# Altium footprint library gfl.PcbLib: 31 footprints (part 2 of 2)
Each footprint in its own frame and in the unit in brackets; x right, y up, seen from the top. Pads: shape width x height; smd on the part's side, far side on the other; paste and mask are expansions set on the pad; w line width, h text height; cw(c..) or ccw(c..) is an arc to the next point about the centre after c.
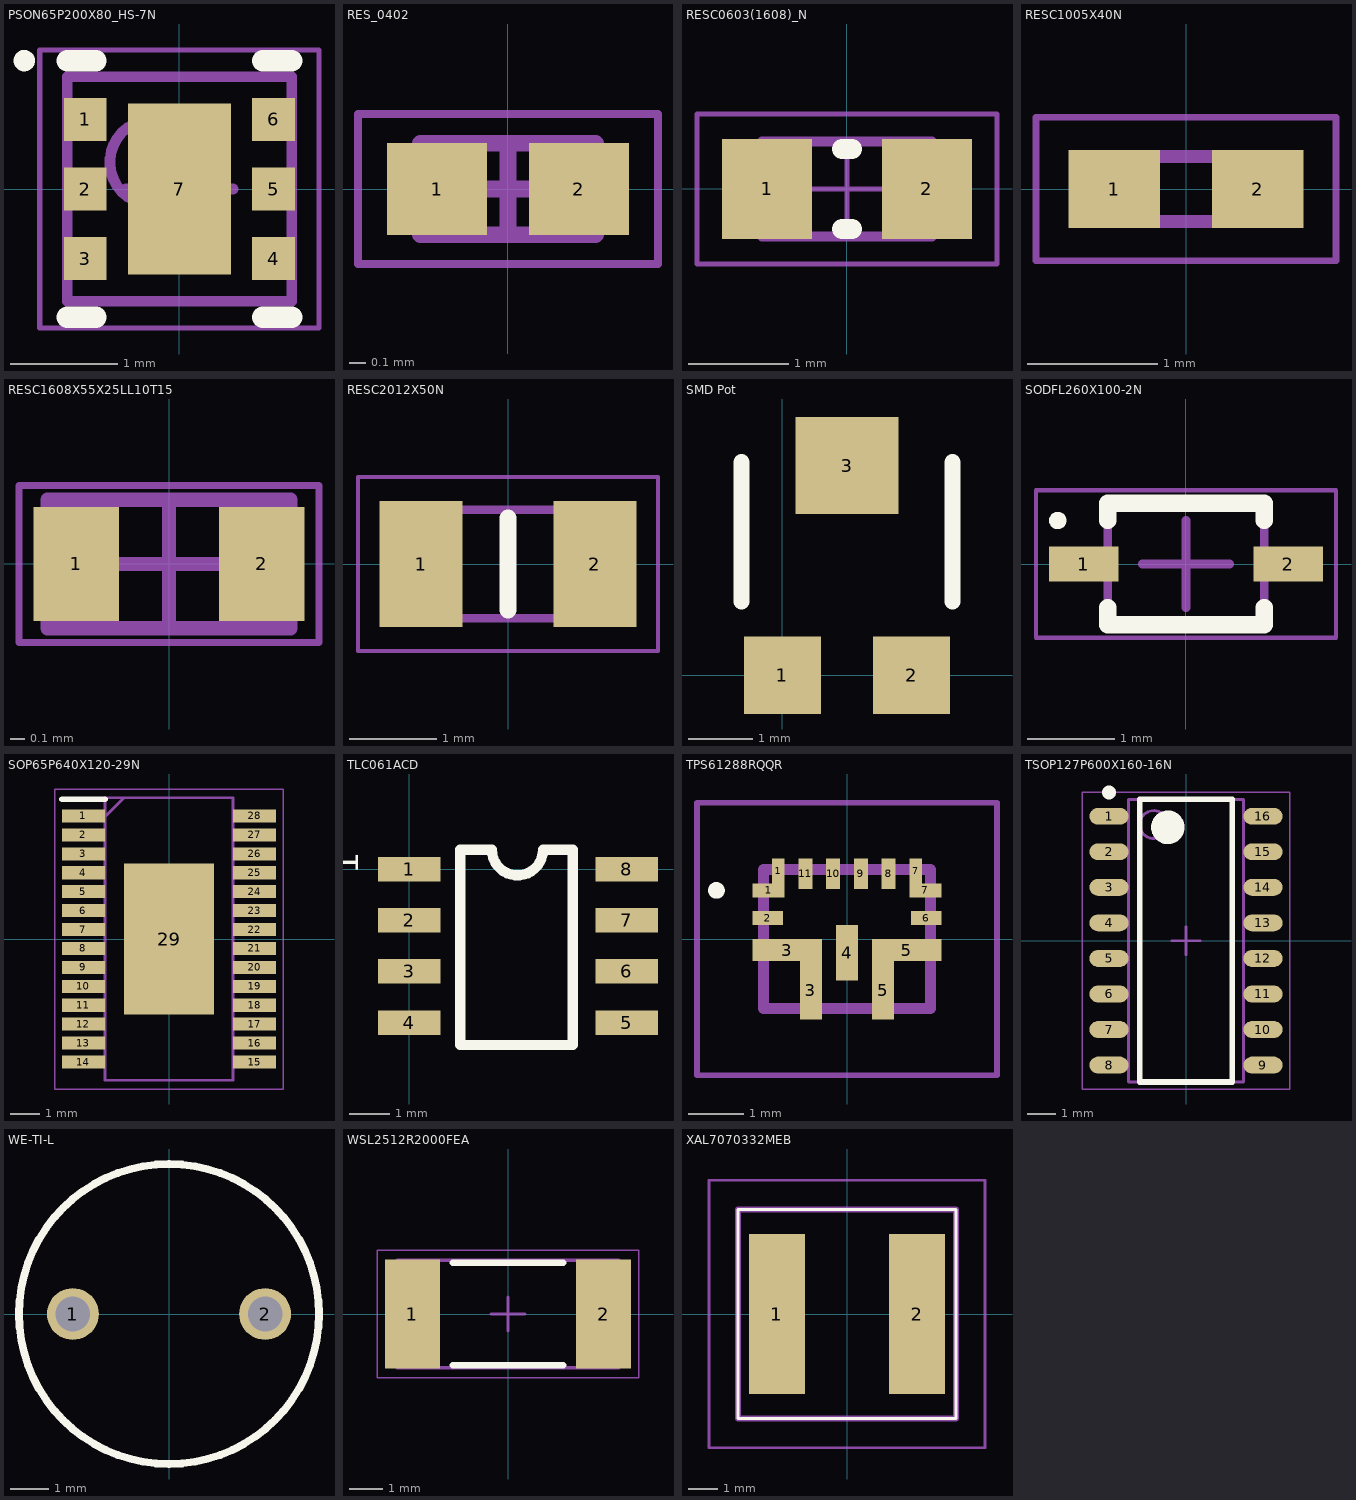
[diagram p1: the footprints below, top view; thin cyan lines are the x and y axes]

## PSON65P200X80_HS-7N [mm] "PSON, 6-Leads, Body 2.00x2.00mm, Pitch 0.65mm, Thermal Pad 1.60x0.96mm, IPC Medium Density"
height 0.8
pads (7):
  rect 0.4x0.4 smd: 1(-0.88,0.65) 2(-0.88,0) 3(-0.88,-0.65) 4(0.88,-0.65) 5(0.88,0) 6(0.88,0.65)
  rect 0.96x1.6 smd: 7(0,0)
Top Overlay:
  circle w0.1: c-1.45,1.2 r0.05
  lines w0.2: -1.05,-1.2 -0.78,-1.2 ; -1.05,1.2 -0.78,1.2 ; 0.78,-1.2 1.05,-1.2 ; 0.78,1.2 1.05,1.2
Top Courtyard:
  lines w0.05: -1.305,-1.3 1.305,-1.3 1.305,1.3 -1.305,1.3 -1.305,-1.3
  lines w0.1: -0.5,0 0.5,0 ; 0,-0.5 0,0.5
Mechanical 13:
  circle w0.1: c-0.25,0.25 r0.4
  lines w0.1: -1.05,-1.05 1.05,-1.05 1.05,1.05 -1.05,1.05 -1.05,-1.05
3D body: height 0.8, standoff 0.08, extent -1.05,-1.05 1.05,1.05

## RES_0402 [mm] "Chip Resistor, 2-Leads, Body 1.00x0.50mm, IPC Medium Density"
height 0.4
pads (2):
  rect 0.6x0.55 smd: 1(-0.425,0) 2(0.425,0)
Mechanical 13:
  lines w0.1: -0.525,-0.275 0.525,-0.275 0.525,0.275 -0.525,0.275 -0.525,-0.275
Mechanical 15:
  lines w0.05: -0.9,-0.45 0.9,-0.45 0.9,0.45 -0.9,0.45 -0.9,-0.45
  lines w0.1: -0.275,0 0.275,0 ; 0,-0.275 0,0.275
3D body "RES_0402.step": height 0.4, standoff 0, extent -0.525,-0.275 0.525,0.275

## RESC0603(1608)_N [mm] "Chip Resistor, Body 1.6x0.8mm, IPC Medium Density"
height 0.6
pads (2):
  rect 0.9x1 smd: 1(-0.8,0) 2(0.8,0)
Top Overlay:
  lines w0.2: -0.05,-0.4 0.05,-0.4 ; -0.05,0.4 0.05,0.4
Mechanical 13:
  lines w0.1: -0.85,-0.475 -0.85,0.475 0.85,0.475 0.85,-0.475 -0.85,-0.475
Mechanical 15:
  lines w0.05: -0.475,0 0.475,0 ; 0,-0.475 0,0.475 ; -1.5,-0.75 -1.5,0.75 1.5,0.75 1.5,-0.75 -1.5,-0.75
3D body: height 0.6, standoff 0, extent 0.581,-0.474 0.85,0.475
3D body: height 0.6, standoff 0, extent -0.58,-0.474 0.581,0.475
3D body: height 0.6, standoff 0, extent -0.849,-0.474 -0.58,0.475

## RESC1005X40N [mm]
pads (2):
  rect 0.7x0.6 smd: 1(-0.55,0) 2(0.55,0)
Mechanical 15:
  lines w0.1: -0.5,-0.25 0.5,-0.25 0.5,0.25 -0.5,0.25 -0.5,-0.25
Mechanical 20:
  lines w0.05: -1.15,-0.55 1.15,-0.55 1.15,0.55 -1.15,0.55 -1.15,-0.55
3D body "CRCW04021M00FKEDHP.step": height 0.4, standoff 0, extent -0.5,-0.25 0.5,0.25

## RESC1608X55X25LL10T15 [mm] "Chip Resistor, 2-Leads, Body 1.60x0.80mm, IPC High Density"
height 0.55
pads (2):
  rect 0.6x0.8 smd: 1(-0.65,0) 2(0.65,0)
Mechanical 13:
  lines w0.1: -0.85,-0.45 0.85,-0.45 0.85,0.45 -0.85,0.45 -0.85,-0.45
Mechanical 15:
  lines w0.05: -1.05,-0.55 1.05,-0.55 1.05,0.55 -1.05,0.55 -1.05,-0.55
  lines w0.1: -0.45,0 0.45,0 ; 0,-0.45 0,0.45
3D body: height 0.55, standoff 0, extent 0.6,-0.45 0.85,0.45
3D body: height 0.55, standoff 0, extent -0.85,-0.45 -0.6,0.45
3D body: height 0.55, standoff 0, extent -0.6,-0.45 0.6,0.45

## RESC2012X50N [mm]
pads (2):
  rect 0.95x1.45 smd: 1(-1,0) 2(1,0)
Top Overlay:
  lines w0.2: 0,-0.525 0,0.525
Mechanical 13:
  lines w0.1: -1.025,-0.625 1.025,-0.625 1.025,0.625 -1.025,0.625 -1.025,-0.625
Mechanical 15:
  lines w0.05: -1.725,-1 1.725,-1 1.725,1 -1.725,1 -1.725,-1
3D body "CRCW0805931KFKEA.stp": height 0.45, standoff 0, extent -1,-0.62 1,0.63

## SMD Pot [mm]
pads (3):
  rect 1.2x1.2 smd: 1(0,0) 2(2,0)
  rect 1.6x1.5 smd: 3(1,3.25)
Top Overlay:
  lines w0.254: -0.635,1.143 -0.635,3.302 ; 2.635,1.143 2.635,3.302
3D body "TC33X-2-303E.step": height 1.19, standoff -0.03, extent -0.484,-0.222 2.516,3.578

## SODFL260X100-2N [mm] "SODFL, 2-Leads, Body 1.30x2.60mm, IPC Medium Density"
height 1
pads (2):
  rect 0.8x0.4 smd: 1(-1.175,0) 2(1.175,0)
Top Overlay:
  circle w0.1: c-1.475,0.5 r0.05
  lines w0.2: -0.9,-0.5 -0.9,-0.7 0.9,-0.7 0.9,-0.5 ; -0.9,0.5 -0.9,0.7 0.9,0.7 0.9,0.5
Top Courtyard:
  lines w0.05: -1.725,-0.85 -1.725,0.85 1.725,0.85 1.725,-0.85 -1.725,-0.85
  lines w0.1: -0.5,0 0.5,0 ; 0,-0.5 0,0.5
Mechanical 13:
  lines w0.1: -0.9,-0.7 -0.9,0.7 0.9,0.7 0.9,-0.7 -0.9,-0.7
3D body: height 1, standoff 0, extent -0.9,-0.7 0.9,0.7

## SOP65P640X120-29N [mm]
pads (29):
  rect 1.475x0.45 smd: 1(-2.938,4.225) 2(-2.938,3.575) 3(-2.938,2.925) 4(-2.938,2.275) 5(-2.938,1.625) 6(-2.938,0.975) 7(-2.938,0.325) 8(-2.938,-0.325) 9(-2.938,-0.975) 10(-2.938,-1.625) 11(-2.938,-2.275) 12(-2.938,-2.925) 13(-2.938,-3.575) 14(-2.938,-4.225) 15(2.938,-4.225) 16(2.938,-3.575) 17(2.938,-2.925) 18(2.938,-2.275) 19(2.938,-1.625) 20(2.938,-0.975) 21(2.938,-0.325) 22(2.938,0.325) 23(2.938,0.975) 24(2.938,1.625) 25(2.938,2.275) 26(2.938,2.925) 27(2.938,3.575) 28(2.938,4.225)
  rect 3.1x5.18 smd: 29(0,0)
Top Overlay:
  lines w0.2: -3.675,4.8 -2.2,4.8
Mechanical 15:
  lines w0.1: -2.2,4.2 -1.55,4.85 ; -2.2,-4.85 2.2,-4.85 2.2,4.85 -2.2,4.85 -2.2,-4.85
Mechanical 20:
  lines w0.05: -3.925,-5.15 3.925,-5.15 3.925,5.15 -3.925,5.15 -3.925,-5.15
3D body "PWP28_5P18X3P1.step": height 1.7, standoff 0, extent -3.302,-4.9 3.302,4.9

## TLC061ACD [mil]
pads (8):
  rect 61x24 smd: 1(0,0) 2(0,-50) 3(0,-100) 4(0,-150) 5(213,-150) 6(213,-100) 7(213,-50) 8(213,0)
Top Overlay:
  lines w10: 80,19 50,19 50,-172 160,-172 160,19 133,19 ; 81,19 ccw(c106,19) 131,19
  text "1" at -50,-5 h25
3D body "SOIC8.stp": height 60.04, standoff -0.11, extent -13,-172.91 223,20

## TPS61288RQQR [mm]
pads (15):
  rect 0.575x0.25 smd: 1(-1.413,0.875) 7(1.413,0.875)
  rect 0.225x0.45 smd: 1(-1.237,1.225) 7(1.237,1.225)
  rect 0.55x0.25 smd: 2(-1.425,0.375) 6(1.425,0.375)
  rect 1.25x0.4 smd: 3(-1.075,-0.2) 5(1.075,-0.2)
  rect 0.4x1.05 smd: 3(-0.65,-0.925) 5(0.65,-0.925)
  rect 0.4x1 smd: 4(0,-0.25)
  rect 0.25x0.55 smd: 8(0.75,1.175) 9(0.25,1.175) 10(-0.25,1.175) 11(-0.75,1.175)
Top Overlay:
  lines w0.2: -2.4,0.875 ccw(c-2.35,0.875) -2.3,0.875 ; -2.4,0.875 cw(c-2.35,0.875) -2.3,0.875 ; -2.4,0.875 ccw(c-2.35,0.875) -2.3,0.875
Mechanical 15:
  lines w0.2: -1.5,-1.25 -1.5,1.25 1.5,1.25 1.5,-1.25 -1.5,-1.25
Mechanical 20:
  lines w0.1: -2.7,-2.45 -2.7,2.45 2.7,2.45 2.7,-2.45 -2.7,-2.45

## TSOP127P600X160-16N [mm] "TSOP, 16-Leads, Body 9.90x3.90mm, Pitch 1.27mm, IPC Medium Density"
height 1.6
pads (16):
  oval 1.4x0.6 smd: 1(-2.75,4.445) 2(-2.75,3.175) 3(-2.75,1.905) 4(-2.75,0.635) 5(-2.75,-0.635) 6(-2.75,-1.905) 7(-2.75,-3.175) 8(-2.75,-4.445) 9(2.75,-4.445) 10(2.75,-3.175) 11(2.75,-1.905) 12(2.75,-0.635) 13(2.75,0.635) 14(2.75,1.905) 15(2.75,3.175) 16(2.75,4.445)
Top Overlay:
  circle w0.6: c-0.65,4.05 r0.3
  circle w0.25: c-2.75,5.295 r0.125
  lines w0.2: -1.65,-5.05 1.65,-5.05 1.65,5.05 -1.65,5.05 -1.65,-5.05
Top Courtyard:
  lines w0.05: -3.7,-5.3 3.7,-5.3 3.7,5.3 -3.7,5.3 -3.7,-5.3
  lines w0.1: -0.5,0 0.5,0 ; 0,-0.5 0,0.5
Top Assembly:
  circle w0.1: c-1.15,4.15 r0.5
  lines w0.1: -2.05,-5.05 2.05,-5.05 2.05,5.05 -2.05,5.05 -2.05,-5.05
3D body "TSOP127P600X160-16N.step": height 1.6, standoff 0, extent -3,-5.05 3,5.05

## WE-TI-L [mm] "THT Inductor, 2-Leads, Body 7.8 x 7.8 mm"
height 10
pads (2):
  round 1.35 hole 0.9: 1(-2.5,0) 2(2.5,0)
Top Overlay:
  circle w0.2: c0,0 r3.9
Mechanical 1:
  circle w0.1: c0,0 r3.9
3D body "744772471.stp": height 9.5, standoff -5, extent -3.9,-3.9 3.886,3.895

## WSL2512R2000FEA [mm]
height 0.89
pads (2):
  rect 1.65x3.25 smd: 1(-2.85,0) 2(2.85,0)
Top Overlay:
  lines w0.2: -1.65,-1.525 1.65,-1.525 ; -1.65,1.525 1.65,1.525
Top Courtyard:
  lines w0.05: -3.9,-1.9 -3.9,1.9 3.9,1.9 3.9,-1.9 -3.9,-1.9
  lines w0.1: -0.5,0 0.5,0 ; 0,-0.5 0,0.5
Top Assembly:
  lines w0.1: -3.3,-1.6 -3.3,1.6 3.3,1.6 3.3,-1.6 -3.3,-1.6
3D body "WSL2512R2000FEA.stp": height 0.64, standoff 0, extent -3.175,-1.59 3.175,1.59

## XAL7070332MEB [mm]
pads (2):
  rect 1.92x5.5 smd: 1(-2.41,0) 2(2.41,0)
Top Overlay:
  lines w0.1: -3.75,-3.6 3.75,-3.6 3.75,3.6 -3.75,3.6 -3.75,-3.6
Mechanical 13:
  lines w0.2: -3.75,-3.6 3.75,-3.6 3.75,3.6 -3.75,3.6 -3.75,-3.6
Mechanical 15:
  lines w0.1: -4.75,-4.6 4.75,-4.6 4.75,4.6 -4.75,4.6 -4.75,-4.6
3D body "XAL7070-222MEB.stp": height 7.1, standoff 0, extent -3.75,-3.6 3.75,3.6